# Altium schematic symbol library AD8615AUJZ-REEL7.SchLib: 1 symbol
Pins are listed as number, name and electrical type; pins without a type are passive.

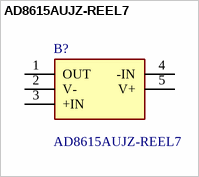
[diagram p0: symbol AD8615AUJZ-REEL7]

## AD8615AUJZ-REEL7
designator B?
ANALOG DEVICES - AD8615AUJZ-REEL7 - OP-AMP, 24MHZ, 12V/US, TSOT-23-5; Geometry.Height: 1mm; Mouser Part Number: 584-AD8615AUJZ-R7; Mouser Price/Stock: https://www.mouser.co.uk/ProductDetail/Analog-Devices/AD8615AUJZ-REEL7?qs=%2FtpEQrCGXCyHRrprFEn%2Fog%3D%3D; Manufacturer_Name: Analog Devices; Manufacturer_Part_Number: AD8615AUJZ-REEL7; Datasheet Link: *
footprint SOT95P280X100-5N
pins: 1 OUT, 2 V- (power), 3 +IN, 4 -IN, 5 V+ (power)